# Altium footprint library AD598.PcbLib: 1 footprints
Each footprint in its own frame and in the unit in brackets; x right, y up, seen from the top. Pads: shape width x height; smd on the part's side, far side on the other; paste and mask are expansions set on the pad; w line width, h text height; cw(c..) or ccw(c..) is an arc to the next point about the centre after c.
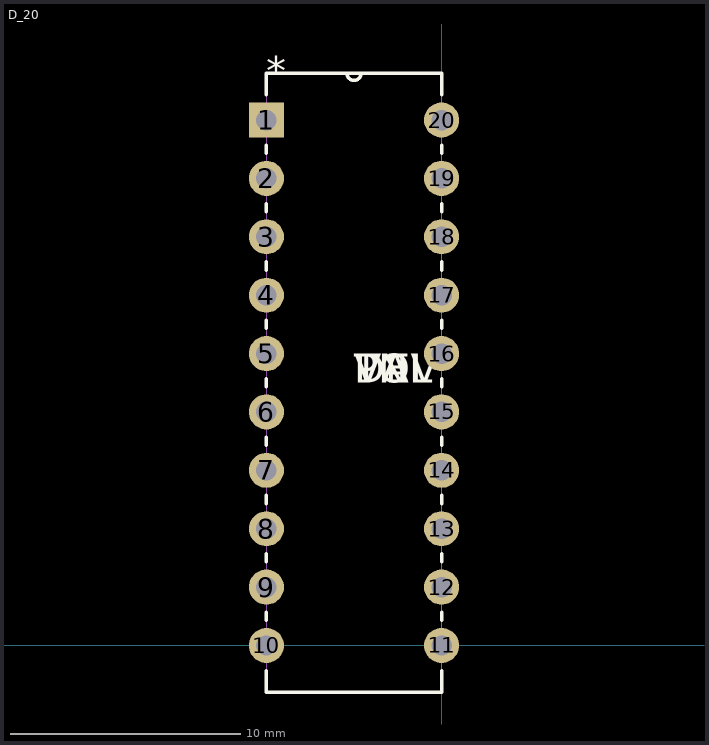
[diagram p0: the footprint, top view; thin cyan lines are the x and y axes]

## D_20 [mil]
pads (20):
  rect 60x60 / inner round 60 / far side rect 60x60 hole 35: 1(-300,900)
  round 60 hole 35: 2(-300,800) 3(-300,700) 4(-300,600) 5(-300,500) 6(-300,400) 7(-300,300) 8(-300,200) 9(-300,100) 10(-300,0) 11(0,0) 12(0,100) 13(0,200) 14(0,300) 15(0,400) 16(0,500) 17(0,600) 18(0,700) 19(0,800) 20(0,900)
Top Overlay:
  lines w6: -300,-43 -300,-80 0,-80 0,-43 ; -300,43 -300,57 ; -300,143 -300,157 ; -300,243 -300,257 ; -300,343 -300,357 ; -300,443 -300,457 ; -300,543 -300,557 ; -300,643 -300,657 ; -300,743 -300,757 ; -300,843 -300,857 ; -300,943 -300,980 0,980 0,943 ; -162,980 ccw(c-150,980) -138,980 ; 0,43 0,57 ; 0,143 0,157 ; 0,243 0,257 ; 0,343 0,357 ; 0,443 0,457 ; 0,543 0,557 ; 0,643 0,657 ; 0,743 0,757 ; 0,843 0,857
  text "*" at -300,960 h50
  text "PN" at -150,450 h50
  text "DEV" at -150,450 h50
  text "VAL" at -150,450 h50
  text "TOL" at -150,450 h50
Mechanical 1:
  lines w0: -162,980 ccw(c-150,980) -138,980 ; -317.5,-17.5 -317.5,17.5 -300,17.5 -300,-17.5 -317.5,-17.5 ; -317.5,82.5 -317.5,117.5 -300,117.5 -300,82.5 -317.5,82.5 ; -317.5,182.5 -317.5,217.5 -300,217.5 -300,182.5 -317.5,182.5 ; -317.5,282.5 -317.5,317.5 -300,317.5 -300,282.5 -317.5,282.5 ; -317.5,382.5 -317.5,417.5 -300,417.5 -300,382.5 -317.5,382.5 ; -317.5,482.5 -317.5,517.5 -300,517.5 -300,482.5 -317.5,482.5 ; -317.5,582.5 -317.5,617.5 -300,617.5 -300,582.5 -317.5,582.5 ; -317.5,682.5 -317.5,717.5 -300,717.5 -300,682.5 -317.5,682.5 ; -317.5,782.5 -317.5,817.5 -300,817.5 -300,782.5 -317.5,782.5 ; -317.5,882.5 -317.5,917.5 -300,917.5 -300,882.5 -317.5,882.5 ; -300,-80 0,-80 0,980 -300,980 -300,-80 ; 0,-17.5 0,17.5 17.5,17.5 17.5,-17.5 0,-17.5 ; 0,82.5 0,117.5 17.5,117.5 17.5,82.5 0,82.5 ; 0,182.5 0,217.5 17.5,217.5 17.5,182.5 0,182.5 ; 0,282.5 0,317.5 17.5,317.5 17.5,282.5 0,282.5 ; 0,382.5 0,417.5 17.5,417.5 17.5,382.5 0,382.5 ; 0,482.5 0,517.5 17.5,517.5 17.5,482.5 0,482.5 ; 0,582.5 0,617.5 17.5,617.5 17.5,582.5 0,582.5 ; 0,682.5 0,717.5 17.5,717.5 17.5,682.5 0,682.5 ; 0,782.5 0,817.5 17.5,817.5 17.5,782.5 0,782.5 ; 0,882.5 0,917.5 17.5,917.5 17.5,882.5 0,882.5
  text "*" at -300,960 h50
  text "RefDes2" at -150,450 h50